# EAGLE library part LTC3785 (library PowerProducts)
10V, High Efficiency, Synchronous, No RSENSE Buck-Boost Controller
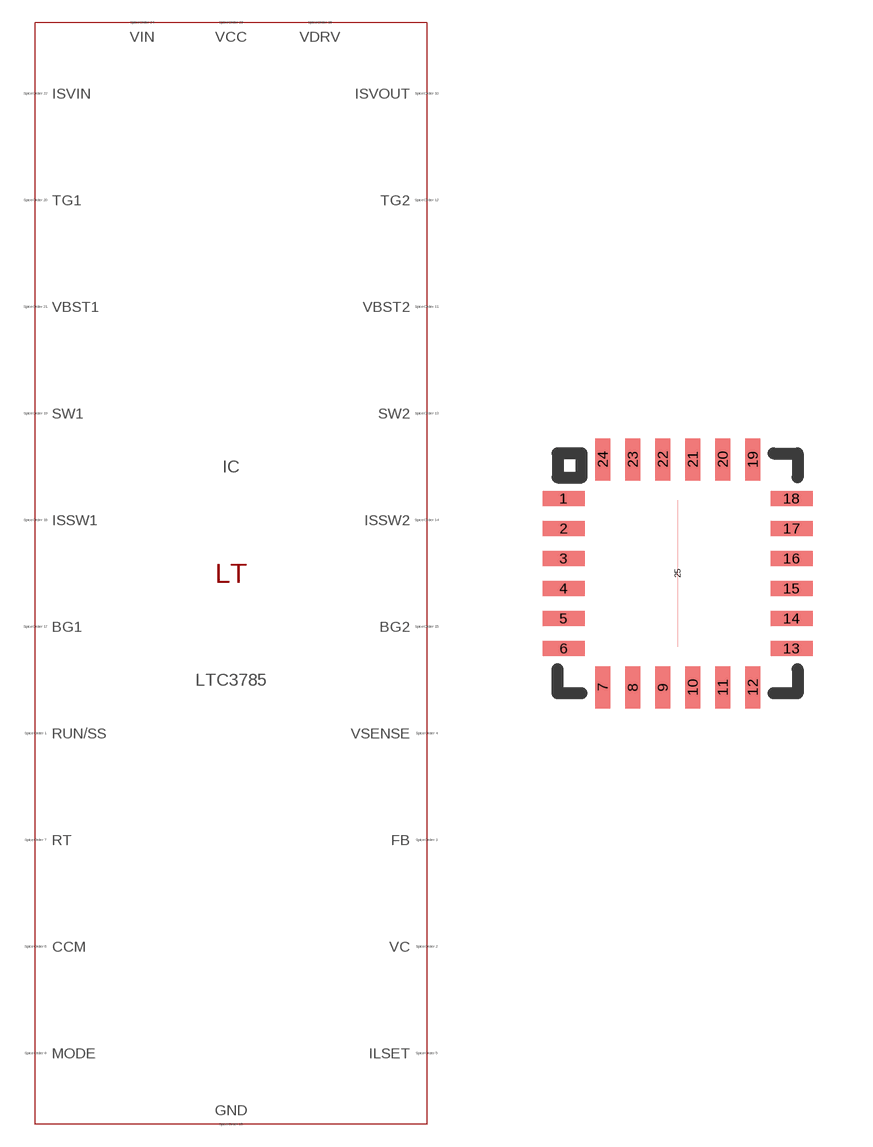
[diagram p326: symbol with the pads of QFN24(UF); footprint QFN24(UF)]

Designator prefix IC

## LTC3785 (SPICEMODEL: LTC3785.sub; SPICEPREFIX: X; VALUE2: LTC3785)  [QFN24(UF)]
1  RUN/SS  pas
2  VC  pas
3  FB  pas
4  VSENSE  pas
5  ILSET  pas
6  CCM  pas
7  RT  pas
8  MODE  pas
10  ISVOUT  pas
11  VBST2  pas
12  TG2  pas
13  SW2  pas
14  ISSW2  pas
15  BG2  pas
16  VDRV  pas
17  BG1  pas
18  ISSW1  pas
19  SW1  pas
20  TG1  pas
21  VBST1  pas
22  ISVIN  pas
23  VCC  pas
24  VIN  pas
25  GND  pas

## Footprint QFN24(UF) (pad centres in mm)
Package generated from: QFN24(UF).asc (!PADS-POWERPCB-V5.0-BASIC! DESIGN DATABASE ASCII FILE 1.0) with :import-pads-powerpcb-v5.ulp Version 1.0.1 at 04.10.2012 14:11:24
smd 1.05 x 0.375: 1 -2.85,1.875; 2 -2.85,1.125; 3 -2.85,0.375; 4 -2.85,-0.375; 5 -2.85,-1.125; 6 -2.85,-1.875; 13 2.85,-1.875; 14 2.85,-1.125; 15 2.85,-0.375; 16 2.85,0.375; 17 2.85,1.125; 18 2.85,1.875
smd 0.375 x 1.05: 7 -1.875,-2.85; 8 -1.125,-2.85; 9 -0.375,-2.85; 10 0.375,-2.85; 11 1.125,-2.85; 12 1.875,-2.85; 19 1.875,2.85; 20 1.125,2.85; 21 0.375,2.85; 22 -0.375,2.85; 23 -1.125,2.85; 24 -1.875,2.85
smd 0 x 3.675: 25 0,0